# Altium footprint library Diod.PcbLib: 392 footprints (part 13 of 25)
Each footprint in its own frame and in the unit in brackets; x right, y up, seen from the top. Pads: shape width x height; smd on the part's side, far side on the other; paste and mask are expansions set on the pad; w line width, h text height; cw(c..) or ccw(c..) is an arc to the next point about the centre after c.
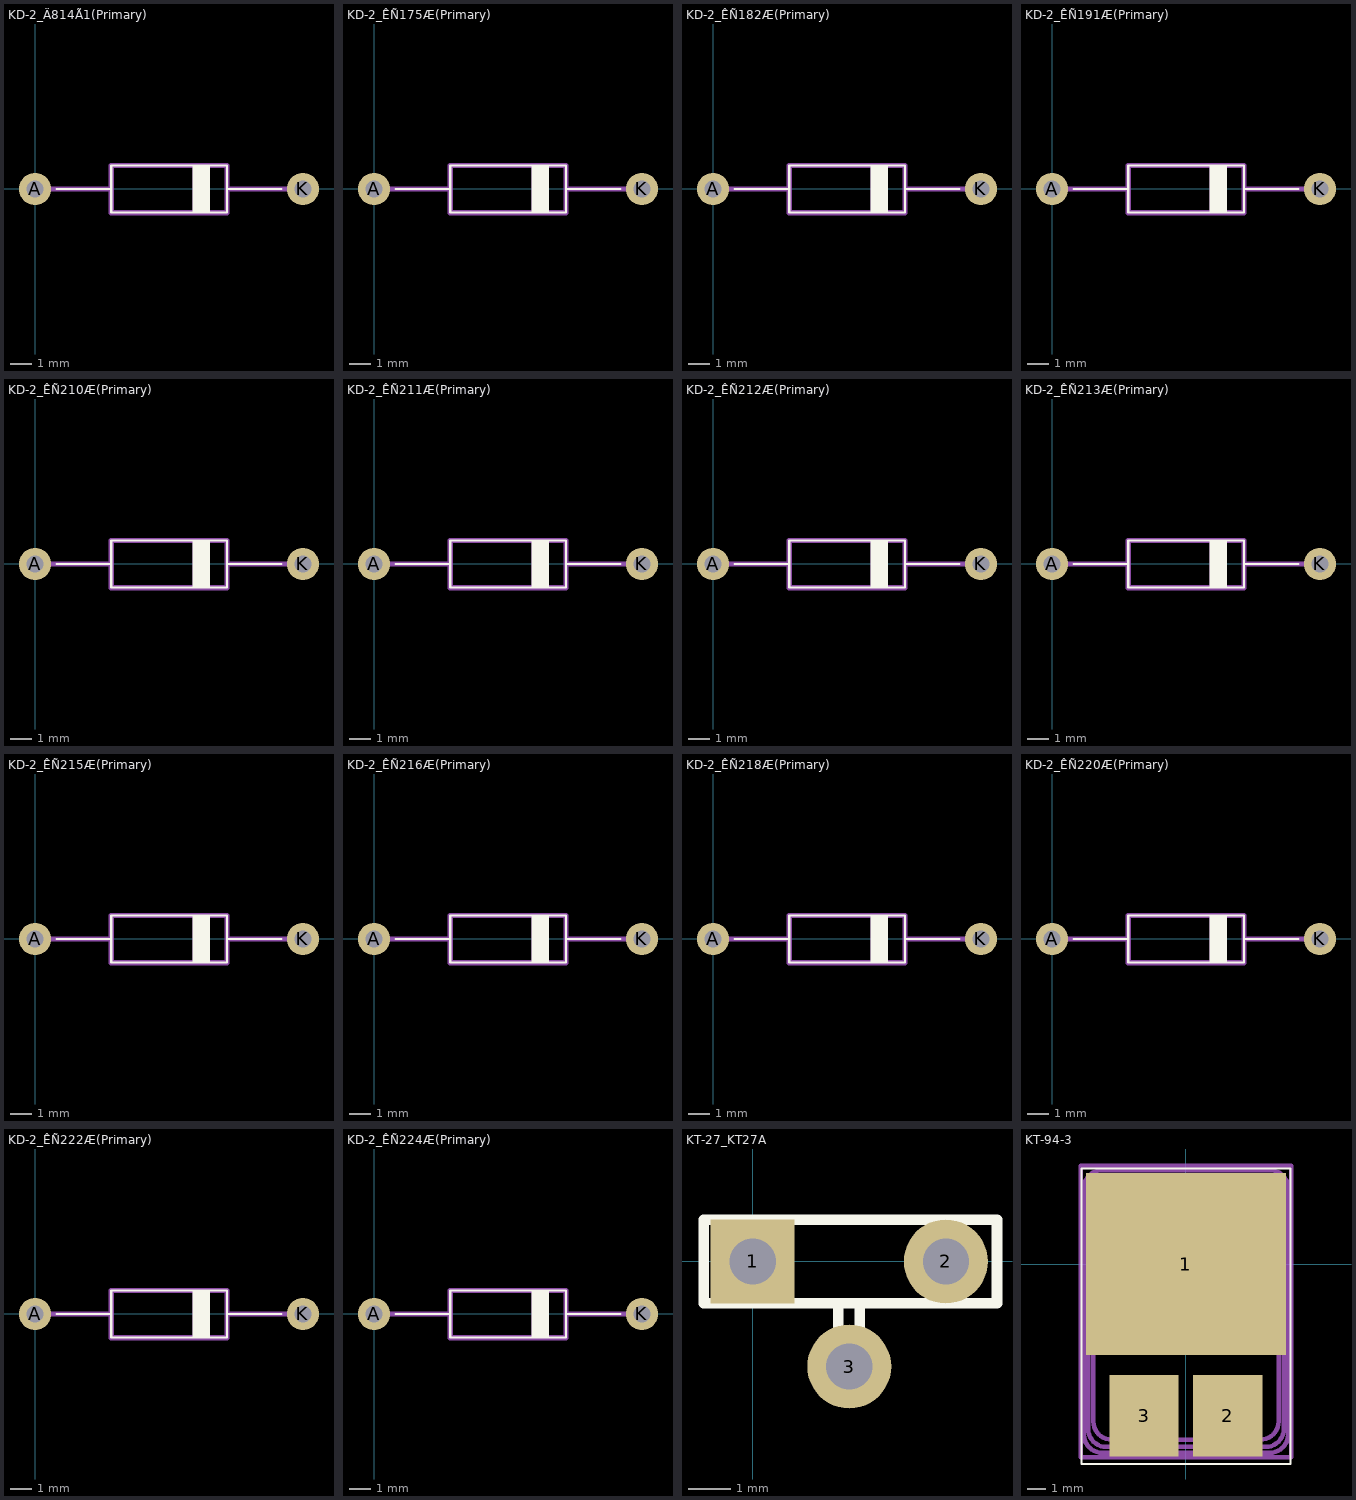
[diagram p12: the footprints below, top view; thin cyan lines are the x and y axes]

## KD-2_Ä814Ã1(Primary) [mm]
pads (2):
  round 1.5 hole 0.8: A(0,0) K(12.5,0)
Top Overlay:
  region: 7.35,1.1 7.35,-1.1 8.15,-1.1 8.15,1.1
  lines w0.1: 1,0 3.558,0 ; 8.958,0 11.5,0 ; 3.558,-1.1 8.958,-1.1 8.958,1.1 3.558,1.1 3.558,-1.1
Mechanical 1:
  region: 7.35,1.1 7.35,-1.1 8.15,-1.1 8.15,1.1
  lines w0.25: 0.008,0 3.558,0 ; 8.958,0 12.508,0 ; 3.558,-1.1 8.958,-1.1 8.958,1.1 3.558,1.1 3.558,-1.1

## KD-2_ÊÑ175Æ(Primary) [mm]
pads (2):
  round 1.5 hole 0.8: A(0,0) K(12.5,0)
Top Overlay:
  region: 7.35,1.1 7.35,-1.1 8.15,-1.1 8.15,1.1
  lines w0.1: 1,0 3.558,0 ; 8.958,0 11.5,0 ; 3.558,-1.1 8.958,-1.1 8.958,1.1 3.558,1.1 3.558,-1.1
Mechanical 1:
  region: 7.35,1.1 7.35,-1.1 8.15,-1.1 8.15,1.1
  lines w0.25: 0.008,0 3.558,0 ; 8.958,0 12.508,0 ; 3.558,-1.1 8.958,-1.1 8.958,1.1 3.558,1.1 3.558,-1.1

## KD-2_ÊÑ182Æ(Primary) [mm]
pads (2):
  round 1.5 hole 0.8: A(0,0) K(12.5,0)
Top Overlay:
  region: 7.35,1.1 7.35,-1.1 8.15,-1.1 8.15,1.1
  lines w0.1: 1,0 3.558,0 ; 8.958,0 11.5,0 ; 3.558,-1.1 8.958,-1.1 8.958,1.1 3.558,1.1 3.558,-1.1
Mechanical 1:
  region: 7.35,1.1 7.35,-1.1 8.15,-1.1 8.15,1.1
  lines w0.25: 0.008,0 3.558,0 ; 8.958,0 12.508,0 ; 3.558,-1.1 8.958,-1.1 8.958,1.1 3.558,1.1 3.558,-1.1

## KD-2_ÊÑ191Æ(Primary) [mm]
pads (2):
  round 1.5 hole 0.8: A(0,0) K(12.5,0)
Top Overlay:
  region: 7.35,1.1 7.35,-1.1 8.15,-1.1 8.15,1.1
  lines w0.1: 1,0 3.558,0 ; 8.958,0 11.5,0 ; 3.558,-1.1 8.958,-1.1 8.958,1.1 3.558,1.1 3.558,-1.1
Mechanical 1:
  region: 7.35,1.1 7.35,-1.1 8.15,-1.1 8.15,1.1
  lines w0.25: 0.008,0 3.558,0 ; 8.958,0 12.508,0 ; 3.558,-1.1 8.958,-1.1 8.958,1.1 3.558,1.1 3.558,-1.1

## KD-2_ÊÑ210Æ(Primary) [mm]
pads (2):
  round 1.5 hole 0.8: A(0,0) K(12.5,0)
Top Overlay:
  region: 7.35,1.1 7.35,-1.1 8.15,-1.1 8.15,1.1
  lines w0.1: 1,0 3.558,0 ; 8.958,0 11.5,0 ; 3.558,-1.1 8.958,-1.1 8.958,1.1 3.558,1.1 3.558,-1.1
Mechanical 1:
  region: 7.35,1.1 7.35,-1.1 8.15,-1.1 8.15,1.1
  lines w0.25: 0.008,0 3.558,0 ; 8.958,0 12.508,0 ; 3.558,-1.1 8.958,-1.1 8.958,1.1 3.558,1.1 3.558,-1.1

## KD-2_ÊÑ211Æ(Primary) [mm]
pads (2):
  round 1.5 hole 0.8: A(0,0) K(12.5,0)
Top Overlay:
  region: 7.35,1.1 7.35,-1.1 8.15,-1.1 8.15,1.1
  lines w0.1: 1,0 3.558,0 ; 8.958,0 11.5,0 ; 3.558,-1.1 8.958,-1.1 8.958,1.1 3.558,1.1 3.558,-1.1
Mechanical 1:
  region: 7.35,1.1 7.35,-1.1 8.15,-1.1 8.15,1.1
  lines w0.25: 0.008,0 3.558,0 ; 8.958,0 12.508,0 ; 3.558,-1.1 8.958,-1.1 8.958,1.1 3.558,1.1 3.558,-1.1

## KD-2_ÊÑ212Æ(Primary) [mm]
pads (2):
  round 1.5 hole 0.8: A(0,0) K(12.5,0)
Top Overlay:
  region: 7.35,1.1 7.35,-1.1 8.15,-1.1 8.15,1.1
  lines w0.1: 1,0 3.558,0 ; 8.958,0 11.5,0 ; 3.558,-1.1 8.958,-1.1 8.958,1.1 3.558,1.1 3.558,-1.1
Mechanical 1:
  region: 7.35,1.1 7.35,-1.1 8.15,-1.1 8.15,1.1
  lines w0.25: 0.008,0 3.558,0 ; 8.958,0 12.508,0 ; 3.558,-1.1 8.958,-1.1 8.958,1.1 3.558,1.1 3.558,-1.1

## KD-2_ÊÑ213Æ(Primary) [mm]
pads (2):
  round 1.5 hole 0.8: A(0,0) K(12.5,0)
Top Overlay:
  region: 7.35,1.1 7.35,-1.1 8.15,-1.1 8.15,1.1
  lines w0.1: 1,0 3.558,0 ; 8.958,0 11.5,0 ; 3.558,-1.1 8.958,-1.1 8.958,1.1 3.558,1.1 3.558,-1.1
Mechanical 1:
  region: 7.35,1.1 7.35,-1.1 8.15,-1.1 8.15,1.1
  lines w0.25: 0.008,0 3.558,0 ; 8.958,0 12.508,0 ; 3.558,-1.1 8.958,-1.1 8.958,1.1 3.558,1.1 3.558,-1.1

## KD-2_ÊÑ215Æ(Primary) [mm]
pads (2):
  round 1.5 hole 0.8: A(0,0) K(12.5,0)
Top Overlay:
  region: 7.35,1.1 7.35,-1.1 8.15,-1.1 8.15,1.1
  lines w0.1: 1,0 3.558,0 ; 8.958,0 11.5,0 ; 3.558,-1.1 8.958,-1.1 8.958,1.1 3.558,1.1 3.558,-1.1
Mechanical 1:
  region: 7.35,1.1 7.35,-1.1 8.15,-1.1 8.15,1.1
  lines w0.25: 0.008,0 3.558,0 ; 8.958,0 12.508,0 ; 3.558,-1.1 8.958,-1.1 8.958,1.1 3.558,1.1 3.558,-1.1

## KD-2_ÊÑ216Æ(Primary) [mm]
pads (2):
  round 1.5 hole 0.8: A(0,0) K(12.5,0)
Top Overlay:
  region: 7.35,1.1 7.35,-1.1 8.15,-1.1 8.15,1.1
  lines w0.1: 1,0 3.558,0 ; 8.958,0 11.5,0 ; 3.558,-1.1 8.958,-1.1 8.958,1.1 3.558,1.1 3.558,-1.1
Mechanical 1:
  region: 7.35,1.1 7.35,-1.1 8.15,-1.1 8.15,1.1
  lines w0.25: 0.008,0 3.558,0 ; 8.958,0 12.508,0 ; 3.558,-1.1 8.958,-1.1 8.958,1.1 3.558,1.1 3.558,-1.1

## KD-2_ÊÑ218Æ(Primary) [mm]
pads (2):
  round 1.5 hole 0.8: A(0,0) K(12.5,0)
Top Overlay:
  region: 7.35,1.1 7.35,-1.1 8.15,-1.1 8.15,1.1
  lines w0.1: 1,0 3.558,0 ; 8.958,0 11.5,0 ; 3.558,-1.1 8.958,-1.1 8.958,1.1 3.558,1.1 3.558,-1.1
Mechanical 1:
  region: 7.35,1.1 7.35,-1.1 8.15,-1.1 8.15,1.1
  lines w0.25: 0.008,0 3.558,0 ; 8.958,0 12.508,0 ; 3.558,-1.1 8.958,-1.1 8.958,1.1 3.558,1.1 3.558,-1.1

## KD-2_ÊÑ220Æ(Primary) [mm]
pads (2):
  round 1.5 hole 0.8: A(0,0) K(12.5,0)
Top Overlay:
  region: 7.35,1.1 7.35,-1.1 8.15,-1.1 8.15,1.1
  lines w0.1: 1,0 3.558,0 ; 8.958,0 11.5,0 ; 3.558,-1.1 8.958,-1.1 8.958,1.1 3.558,1.1 3.558,-1.1
Mechanical 1:
  region: 7.35,1.1 7.35,-1.1 8.15,-1.1 8.15,1.1
  lines w0.25: 0.008,0 3.558,0 ; 8.958,0 12.508,0 ; 3.558,-1.1 8.958,-1.1 8.958,1.1 3.558,1.1 3.558,-1.1

## KD-2_ÊÑ222Æ(Primary) [mm]
pads (2):
  round 1.5 hole 0.8: A(0,0) K(12.5,0)
Top Overlay:
  region: 7.35,1.1 7.35,-1.1 8.15,-1.1 8.15,1.1
  lines w0.1: 1,0 3.558,0 ; 8.958,0 11.5,0 ; 3.558,-1.1 8.958,-1.1 8.958,1.1 3.558,1.1 3.558,-1.1
Mechanical 1:
  region: 7.35,1.1 7.35,-1.1 8.15,-1.1 8.15,1.1
  lines w0.25: 0.008,0 3.558,0 ; 8.958,0 12.508,0 ; 3.558,-1.1 8.958,-1.1 8.958,1.1 3.558,1.1 3.558,-1.1

## KD-2_ÊÑ224Æ(Primary) [mm]
pads (2):
  round 1.5 hole 0.8: A(0,0) K(12.5,0)
Top Overlay:
  region: 7.35,1.1 7.35,-1.1 8.15,-1.1 8.15,1.1
  lines w0.1: 1,0 3.558,0 ; 8.958,0 11.5,0 ; 3.558,-1.1 8.958,-1.1 8.958,1.1 3.558,1.1 3.558,-1.1
Mechanical 1:
  region: 7.35,1.1 7.35,-1.1 8.15,-1.1 8.15,1.1
  lines w0.25: 0.008,0 3.558,0 ; 8.958,0 12.508,0 ; 3.558,-1.1 8.958,-1.1 8.958,1.1 3.558,1.1 3.558,-1.1

## KT-27_KT27A [mm]
pads (3):
  rect 2x2 hole 1.1: 1(0,0)
  round 2 hole 1.1: 2(4.6,0) 3(2.3,-2.5)
Top Overlay:
  lines w0.25: 2.043,-1.011 2.043,-2.56 2.551,-2.56 2.551,-1.011 ; -1.168,-0.991 5.817,-0.991 5.817,0.991 -1.168,0.991 -1.168,-0.991
  text "1" at -1.325,-1.053 h0.4

## KT-94-3 [mm]
pads (3):
  rect 11x10 smd: 1(0,0)
  rect 3.8x4.5 smd: 2(2.3,-8.35) 3(-2.3,-8.35)
Top Overlay:
  lines w0.1: -5.75,-11 5.75,-11 5.75,5.25 -5.75,5.25 -5.75,-11
Mechanical 1:
  lines w0.25: -5.787,-10.621 5.793,-10.621 5.793,5.399 -5.787,5.399 -5.787,-10.621 ; -5.614,-9.381 ccw(c-4.614,-9.381) -4.614,-10.381 4.619,-10.381 ccw(c4.619,-9.381) 5.619,-9.381 5.619,4.158 ccw(c4.619,4.158) 4.619,5.158 -4.614,5.158 ccw(c-4.614,4.158) -5.614,4.158 -5.614,-9.381 ; -5.382,-9.061 ccw(c-4.382,-9.061) -4.382,-10.061 4.387,-10.061 ccw(c4.387,-9.061) 5.387,-9.061 5.387,3.838 ccw(c4.387,3.838) 4.387,4.838 -4.382,4.838 ccw(c-4.382,3.838) -5.382,3.838 -5.382,-9.061 ; -5.092,-8.66 ccw(c-4.092,-8.66) -4.092,-9.66 4.098,-9.66 ccw(c4.098,-8.66) 5.098,-8.66 5.098,3.437 ccw(c4.098,3.437) 4.098,4.437 -4.092,4.437 ccw(c-4.092,3.437) -5.092,3.437 -5.092,-8.66